# EAGLE library part 84952-6 (library conn)
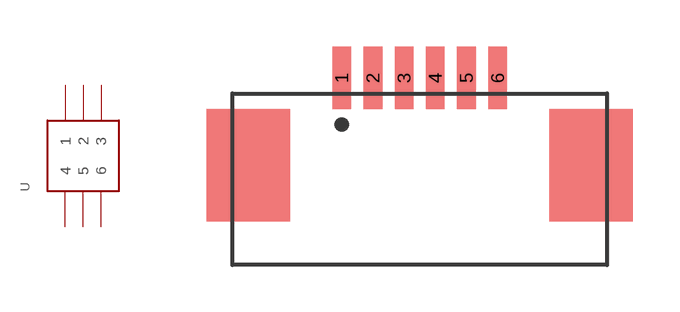
[diagram p1: symbol with the pads of 84952-6; footprint 84952-6]

Designator prefix -

## 84952-6  [84952-6]
1  1
2  2
3  3
4  4
5  5
6  6

## Footprint 84952-6 (pad centres in mm)
CONN FPC 6POS 1MM R/A SMD DigiKey part number A101387CT-ND
smd 0.6 x 2: 1 -2.5,1; 2 -1.5,1; 3 -0.5,1; 4 0.5,1; 5 1.5,1; 6 2.5,1